# Altium schematic symbol library M1&M1W.SchLib: 2 symbols
Pins are listed as number, name and electrical type; pins without a type are passive.

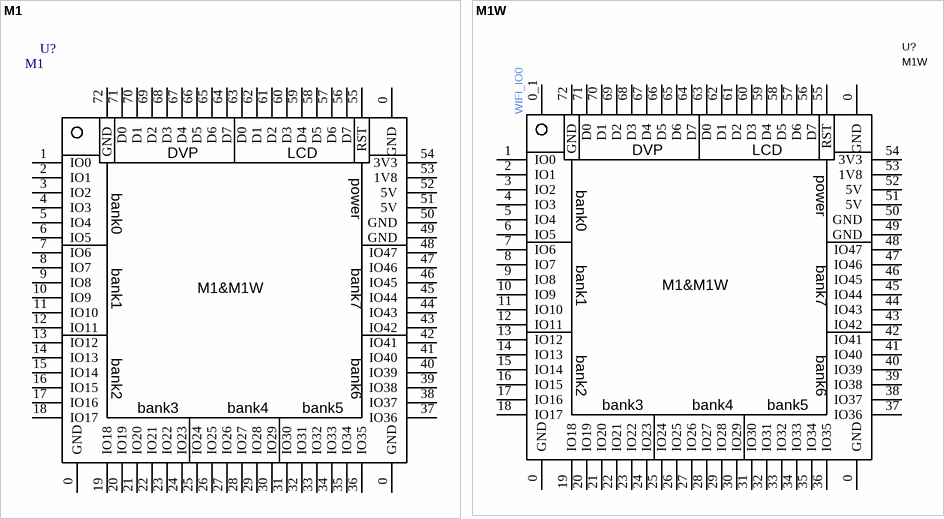
[diagram p0: symbols M1 to M1W]

## M1
designator U?
pins: 0 GND, 0 GND, 0 GND, 1 IO0, 2 IO1, 3 IO2, 4 IO3, 5 IO4, 6 IO5, 7 IO6, 8 IO7, 9 IO8, 10 IO9, 11 IO10, 12 IO11, 13 IO12, 14 IO13, 15 IO14, 16 IO15, 17 IO16, 18 IO17, 19 IO18, 20 IO19, 21 IO20, 22 IO21, 23 IO22, 24 IO23, 25 IO24, 26 IO25, 27 IO26, 28 IO27, 29 IO28, 30 IO29, 31 IO30, 32 IO31, 33 IO32, 34 IO33, 35 IO34, 36 IO35, 37 IO36, 38 IO37, 39 IO38, 40 IO39, 41 IO40, 42 IO41, 43 IO42, 44 IO43, 45 IO44, 46 IO45, 47 IO46, 48 IO47, 49 GND, 50 GND, 51 5V, 52 5V, 53 1V8, 54 3V3, 55 RST, 56 D7, 57 D6, 58 D5, 59 D4, 60 D3, 61 D2, 62 D1, 63 D0, 64 D7, 65 D6, 66 D5, 67 D4, 68 D3, 69 D2, 70 D1, 71 D0, 72 GND
text: DVP; LCD; power; bank0; bank1; bank7; bank2; bank6; bank3; bank4; bank5

## M1W
designator U?
pins: 0 GND, 0 GND, 0 GND, 0_1, 1 IO0, 2 IO1, 3 IO2, 4 IO3, 5 IO4, 6 IO5, 7 IO6, 8 IO7, 9 IO8, 10 IO9, 11 IO10, 12 IO11, 13 IO12, 14 IO13, 15 IO14, 16 IO15, 17 IO16, 18 IO17, 19 IO18, 20 IO19, 21 IO20, 22 IO21, 23 IO22, 24 IO23, 25 IO24, 26 IO25, 27 IO26, 28 IO27, 29 IO28, 30 IO29, 31 IO30, 32 IO31, 33 IO32, 34 IO33, 35 IO34, 36 IO35, 37 IO36, 38 IO37, 39 IO38, 40 IO39, 41 IO40, 42 IO41, 43 IO42, 44 IO43, 45 IO44, 46 IO45, 47 IO46, 48 IO47, 49 GND, 50 GND, 51 5V, 52 5V, 53 1V8, 54 3V3, 55 RST, 56 D7, 57 D6, 58 D5, 59 D4, 60 D3, 61 D2, 62 D1, 63 D0, 64 D7, 65 D6, 66 D5, 67 D4, 68 D3, 69 D2, 70 D1, 71 D0, 72 GND
text: WIFI_IO0; DVP; LCD; power; bank0; bank1; bank7; M1&M1W; bank2; bank6; bank3; bank4; bank5